# Altium schematic symbol library Connectors.SchLib: 26 symbols
Pins are listed as number, name and electrical type; pins without a type are passive.

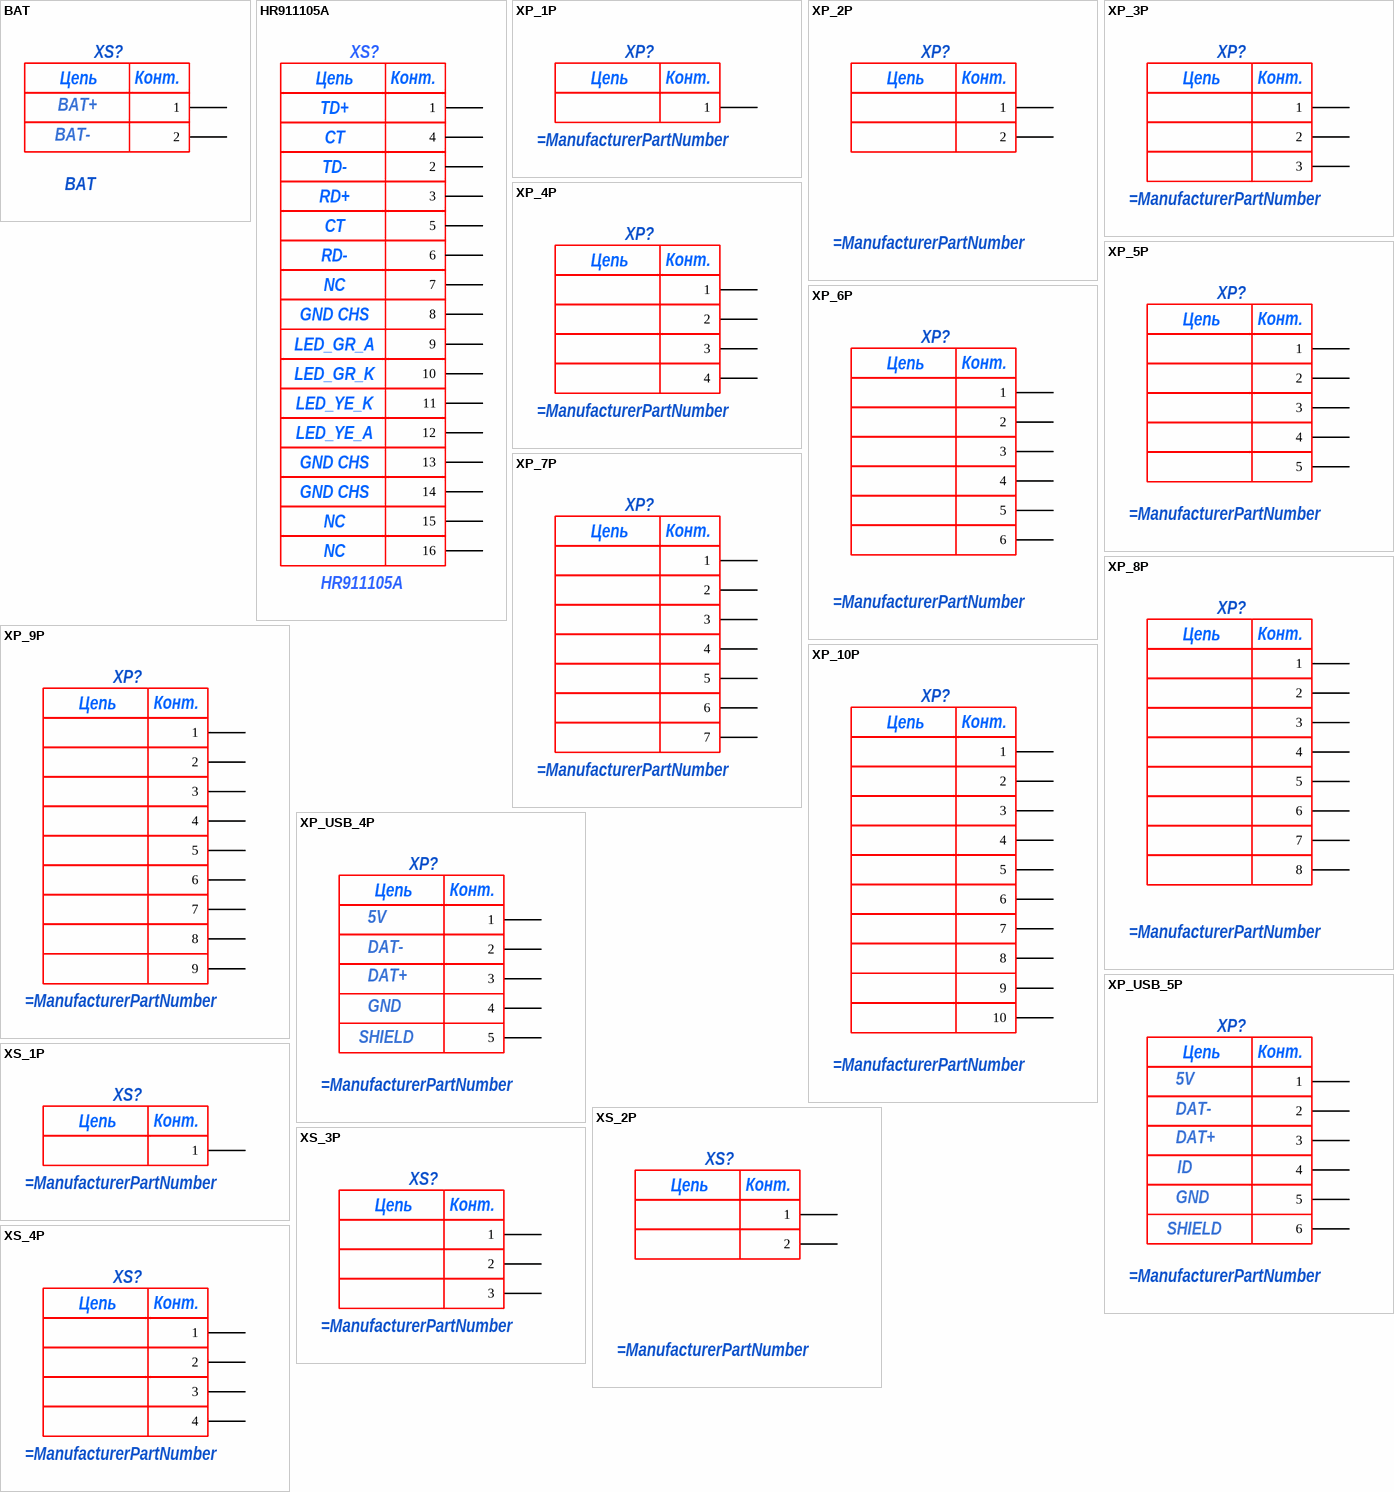
[diagram p0: symbols BAT to XS_4P]

## BAT
designator XS?
ManufacturerPartNumber: FC1-5211; manufacturer: *; Power/Voltage: *; Rem: *; TKE: *; Tolerance: *; Type: *; Value: *; Корпус: *; Примечание: *
footprint FC1-5211 (Батарейный отсек)
pins: 1, 2
text: Цепь; Конт.; BAT+; BAT-

## HR911105A
designator XS?
Разъем RJ-45 с трансформаторами и светодиодами
pins: 1, 2, 3, 4, 5, 6, 7, 8, 9, 10, 11, 12, 13, 14, 15, 16
text: Цепь; Конт.; TD+; CT; TD-; RD+; RD-; NC; GND CHS; LED_GR_A; LED_GR_K; LED_YE_K; LED_YE_A

## XP_1P
designator XP?
pins: 1
text: Цепь; Конт.

## XP_2P
designator XP?
pins: 1, 2
text: Цепь; Конт.

## XP_3P
designator XP?
pins: 1, 2, 3
text: Цепь; Конт.

## XP_4P
designator XP?
pins: 1, 2, 3, 4
text: Цепь; Конт.

## XP_5P
designator XP?
pins: 1, 2, 3, 4, 5
text: Цепь; Конт.

## XP_6P
designator XP?
pins: 1, 2, 3, 4, 5, 6
text: Цепь; Конт.

## XP_7P
designator XP?
pins: 1, 2, 3, 4, 5, 6, 7
text: Цепь; Конт.

## XP_8P
designator XP?
pins: 1, 2, 3, 4, 5, 6, 7, 8
text: Цепь; Конт.

## XP_9P
designator XP?
pins: 1, 2, 3, 4, 5, 6, 7, 8, 9
text: Цепь; Конт.

## XP_10P
designator XP?
pins: 1, 2, 3, 4, 5, 6, 7, 8, 9, 10
text: Цепь; Конт.

## XP_USB_4P
designator XP?
pins: 1, 2, 3, 4, 5
text: Цепь; Конт.; 5V; DAT-; DAT+; GND; SHIELD

## XP_USB_5P
designator XP?
pins: 1, 2, 3, 4, 5, 6
text: Цепь; Конт.; 5V; DAT-; DAT+; ID; GND; SHIELD

## XS_1P
designator XS?
pins: 1
text: Цепь; Конт.

## XS_2P
designator XS?
pins: 1, 2
text: Цепь; Конт.

## XS_3P
designator XS?
pins: 1, 2, 3
text: Цепь; Конт.

## XS_4P
designator XS?
pins: 1, 2, 3, 4
text: Цепь; Конт.

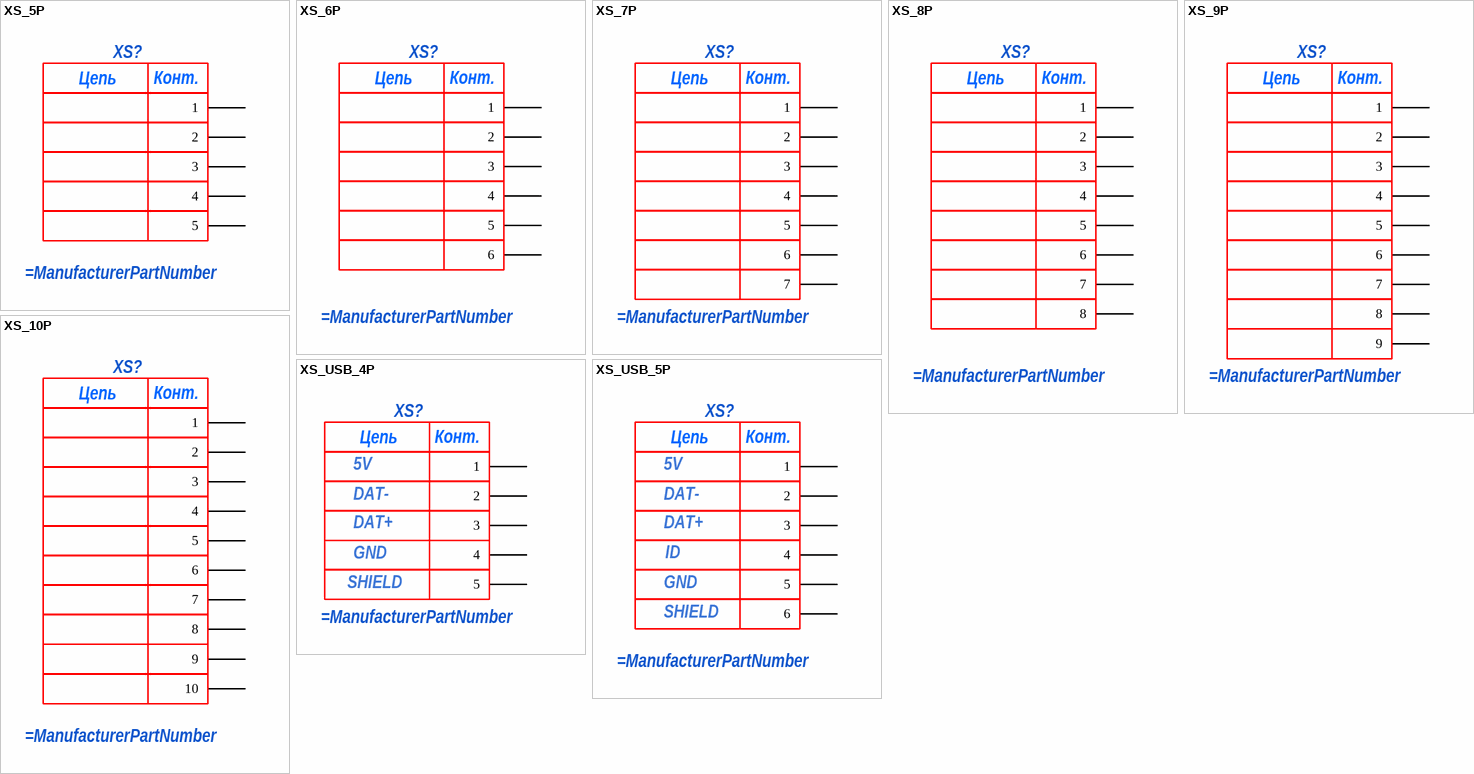
[diagram p1: symbols XS_5P to XS_USB_5P]

## XS_5P
designator XS?
pins: 1, 2, 3, 4, 5
text: Цепь; Конт.

## XS_6P
designator XS?
pins: 1, 2, 3, 4, 5, 6
text: Цепь; Конт.

## XS_7P
designator XS?
pins: 1, 2, 3, 4, 5, 6, 7
text: Цепь; Конт.

## XS_8P
designator XS?
pins: 1, 2, 3, 4, 5, 6, 7, 8
text: Цепь; Конт.

## XS_9P
designator XS?
pins: 1, 2, 3, 4, 5, 6, 7, 8, 9
text: Цепь; Конт.

## XS_10P
designator XS?
pins: 1, 2, 3, 4, 5, 6, 7, 8, 9, 10
text: Цепь; Конт.

## XS_USB_4P
designator XS?
pins: 1, 2, 3, 4, 5
text: Цепь; Конт.; 5V; DAT-; DAT+; GND; SHIELD

## XS_USB_5P
designator XS?
pins: 1, 2, 3, 4, 5, 6
text: Цепь; Конт.; 5V; DAT-; DAT+; ID; GND; SHIELD